# Altium footprint library ALTAIR_PD_Pogo.PcbLib: 5 footprints
Each footprint in its own frame and in the unit in brackets; x right, y up, seen from the top. Pads: shape width x height; smd on the part's side, far side on the other; paste and mask are expansions set on the pad; w line width, h text height; cw(c..) or ccw(c..) is an arc to the next point about the centre after c.
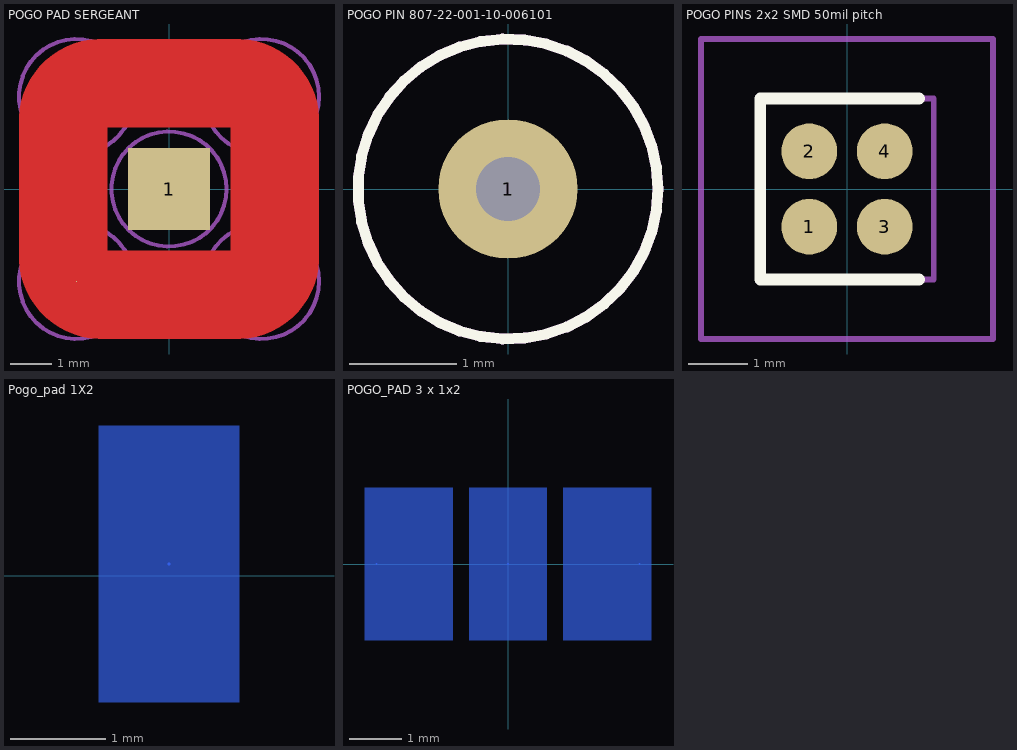
[diagram p0: the footprints below, top view; thin cyan lines are the x and y axes]

## POGO PAD SERGEANT [mm]
pads (2):
  rect 2x2 smd: 1(0,0)
  round 0.025 smd mask+0.102: 2(-2.25,-2.25)
Top Layer:
  region: -3.65,1.65 -3.65,1.5 -3.65,-1.5 -1.5,-1.5 -1.5,1.5 1.5,1.5 1.5,-1.5 -3.65,-1.5 -3.65,-1.625 -3.65,-1.724 -3.63,-1.922 -3.592,-2.118 -3.534,-2.308 -3.458,-2.492 -3.364,-2.667 -3.253,-2.833 -3.127,-2.987 -2.987,-3.127 -2.833,-3.253 -2.667,-3.364 -2.492,-3.458 -2.308,-3.534 -2.118,-3.592 -1.922,-3.63 -1.724,-3.65 -1.625,-3.65 1.65,-3.65 1.748,-3.65 1.944,-3.631 2.137,-3.592 2.325,-3.535 2.506,-3.46 2.68,-3.367 2.843,-3.258 2.995,-3.134 3.134,-2.995 3.259,-2.843 3.368,-2.679 3.46,-2.506 3.536,-2.324 3.593,-2.136 3.631,-1.944 3.65,-1.748 3.65,-1.65 3.65,1.65 3.65,1.748 3.631,1.944 3.593,2.136 3.536,2.324 3.46,2.506 3.368,2.679 3.259,2.843 3.134,2.995 2.995,3.134 2.843,3.258 2.68,3.367 2.506,3.46 2.325,3.535 2.137,3.592 1.944,3.631 1.748,3.65 1.65,3.65 1.5,3.65 -1.65,3.65 -1.748,3.65 -1.944,3.631 -2.137,3.592 -2.325,3.535 -2.506,3.46 -2.679,3.368 -2.843,3.258 -2.995,3.134 -3.134,2.995 -3.258,2.843 -3.368,2.679 -3.46,2.506 -3.535,2.325 -3.592,2.137 -3.631,1.944 -3.65,1.748
Mechanical 1:
  circle w0.1: c0,0 r1.4
  circle w0.1: c2.25,2.25 r1.4
  circle w0.1: c2.25,-2.25 r1.4
  circle w0.1: c-2.25,-2.25 r1.4
  circle w0.1: c-2.25,2.25 r1.4

## POGO PIN 807-22-001-10-006101 [mm] "Mill-Max 807-22-001-10-006101 Insulated Discrete Pogo Pin 5.99mm init height 2.79mm diameter"
pads (1):
  round 1.3 hole 0.6: 1(0,0)
Top Overlay:
  circle w0.1: c0,0 r1.4
Mechanical 1:
  circle w0.1: c0,0 r1.4
3D body "mill-max-807-XX-XXX-10-006101.STEP": height 5.99, standoff -1.75, extent -1.395,-1.394 1.395,1.394

## POGO PINS 2x2 SMD 50mil pitch [mm] "Mill-Max 855-22-004-30-004101"
pads (4):
  round 0.94 smd: 1(-0.635,-0.635) 2(-0.635,0.635) 3(0.635,-0.635) 4(0.635,0.635)
Top Overlay:
  lines w0.2: 1.211,-1.525 -1.46,-1.525 -1.46,1.525 1.211,1.525
Mechanical 13:
  lines w0.1: -1.46,-1.525 -1.46,1.525 1.46,1.525 1.46,-1.525 -1.46,-1.525
Mechanical 15:
  lines w0.1: -2.46,-2.525 -2.46,2.525 2.46,2.525 2.46,-2.525 -2.46,-2.525
3D body "mill-max-855-22-004-30-004101.STEP": height 4.2, standoff -0.01, extent -1.461,-1.524 1.46,1.524

## Pogo_pad 1X2 [mil] "Legacy footprint from the old way of defining the Soldier signal/guard nets."
pads (1):
  round 1 smd far side: ""(107.28,4.92)
Bottom Layer:
  region: 78.25,-52.17 78.25,62.01 136.32,62.01 136.32,-52.17
Top Solder:
  rectangle: 73.82,-57.09 140.75,66.93

## POGO_PAD 3 x 1x2 [mil] "Pad corresponding to array of three 1x2 pin components. TODO: Check if the pogo pins have been fit-tested. The solder layer polygon on Sgt seems too narrow."
pads (3):
  round 1 smd far side: 1(0,0) 2(-98.43,0) 3(98.43,0)
Bottom Layer:
  region: -29.04,-57.09 -29.04,57.09 29.04,57.09 29.04,-57.09
  region: -107.28,-57.09 -107.28,57.09 -41.34,57.09 -41.34,-57.09
  region: 107.28,57.09 107.28,-57.09 41.34,-57.09 41.34,57.09
Top Solder:
  rectangle: -112.2,-62.01 112.2,62.01